# EAGLE library part A4982 (library JeeLabs)
DMOS Microstepping Driver with Translator Auto generated by make-symbol-device-package-bsdl.ulp Rev. 32 Source: http://www.allegromicro.com/en/Products/Part_Numbers/4983/4983.pdf
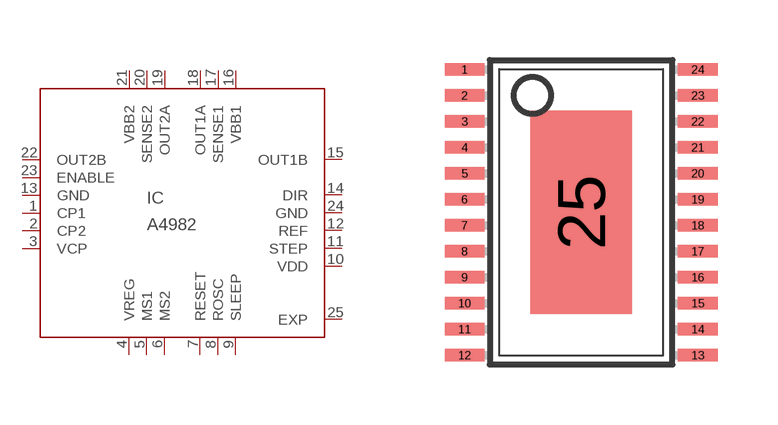
[diagram p26: symbol with the pads of TSSOP24-LP; footprint TSSOP24-LP]

Designator prefix IC

## A4982  [TSSOP24-LP]
1  CP1  pas
2  CP2  pas
3  VCP  pas
4  VREG  pas
5  MS1  in
6  MS2  in
7  RESET  in
8  ROSC  in
9  SLEEP  in
10  VDD  pwr
11  STEP  in
12  REF  in
13  GND  pwr
14  DIR  in
15  OUT1B  out
16  VBB1  pwr
17  SENSE1  in
18  OUT1A  out
19  OUT2A  out
20  SENSE2  in
21  VBB2  pwr
22  OUT2B  out
23  ENABLE  in
24  GND  pwr
25  EXP  pas

## Footprint TSSOP24-LP (pad centres in mm)
smd 0.991 x 0.305: 1 -2.918,3.575; 2 -2.918,2.925; 3 -2.918,2.275; 4 -2.918,1.625; 5 -2.918,0.975; 6 -2.918,0.325; 7 -2.918,-0.325; 8 -2.918,-0.975; 9 -2.918,-1.625; 10 -2.918,-2.275; 11 -2.918,-2.925; 12 -2.918,-3.575; 13 2.918,-3.575; 14 2.918,-2.925; 15 2.918,-2.275; 16 2.918,-1.625; 17 2.918,-0.975; 18 2.918,-0.325; 19 2.918,0.325; 20 2.918,0.975; 21 2.918,1.625; 22 2.918,2.275; 23 2.918,2.925; 24 2.918,3.575
smd 2.54 x 5.08: 25 0,0